# Altium schematic symbol library Custom.SchLib: 5 symbols
Pins are listed as number, name and electrical type; pins without a type are passive.

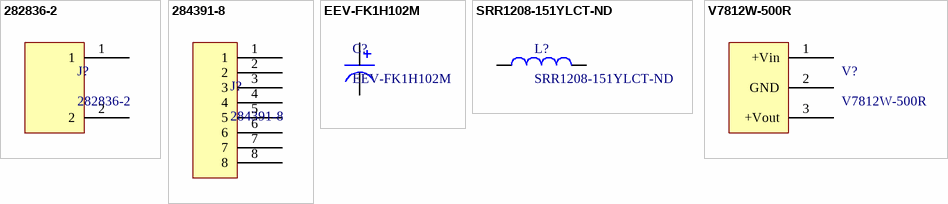
[diagram p0: symbols 282836-2 to V7812W-500R]

## 282836-2
designator J?
Board Mount w/Interlock,  Low Profile,  5.0 mm Centerline,  Side Wire Entry
footprint 282836-2 (Board Mount w/Interlock,  Low Profile,  5.0 mm Centerline,  Side Wire Entry)
pins: 1 (power), 2 (power)

## 284391-8
designator J?
8-Pos Eurostyle Terminal Block
footprint 284391-8 (8-Pos Eurostyle Terminal Block)
pins: 1, 2, 3, 4, 5, 6, 7, 8

## EEV-FK1H102M
designator C?
Aluminum Electrolytic Capcitor
footprint EEV-FK1H102M (Aluminum Electrolitic Capcitor)
pins: 1 -, 2 +

## SRR1208-151YLCT-ND
designator L?
footprint SRR1208-151YLCT-ND
pins: 1, 2

## V7812W-500R
designator V?
footprint V7812W-500R (CONVERT DC/DC REG 12V 500MA 3SIP)
pins: 1 +Vin (power), 2 GND (power), 3 +Vout (power)